# Altium footprint library PcbLib1.PcbLib: 18 footprints (part 2 of 2)
Each footprint in its own frame and in the unit in brackets; x right, y up, seen from the top. Pads: shape width x height; smd on the part's side, far side on the other; paste and mask are expansions set on the pad; w line width, h text height; cw(c..) or ccw(c..) is an arc to the next point about the centre after c.
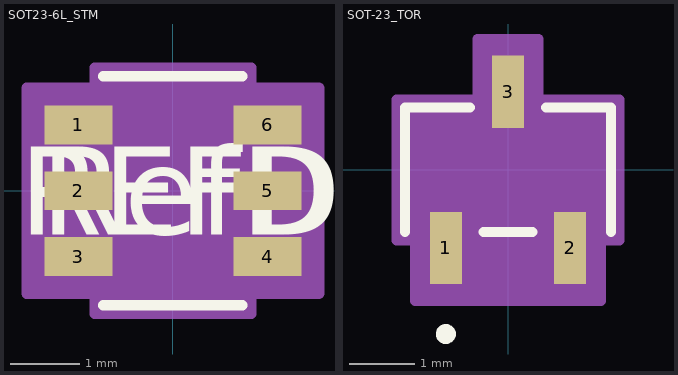
[diagram p1: the footprints below, top view; thin cyan lines are the x and y axes]

## SOT23-6L_STM [mil]
pads (6):
  rect 38.5x22 smd paste+0 mask+0: 1(-53.75,37.4) 2(-53.75,0) 3(-53.75,-37.4) 4(53.75,-37.4) 5(53.75,0) 6(53.75,37.4)
Top Overlay:
  lines w6: -39.5,-65 39.5,-65 ; -39.5,65 39.5,65
  text "REFDES" at -87.5,-25 h50
  text "RefDes" at -75,-25 h50
Top 3D Body:
  lines w0: -12,60 ccw(c0,60) 12,60
  lines w1: -59,-47.4 -59,-27.4 -34.5,-27.4 -34.5,-47.4 -59,-47.4 ; -59,-10 -59,10 -34.5,10 -34.5,-10 -59,-10 ; -59,27.4 -59,47.4 -34.5,47.4 -34.5,27.4 -59,27.4 ; -34.5,-60 34.5,-60 34.5,60 -34.5,60 -34.5,-60 ; 34.5,-47.4 34.5,-27.4 59,-27.4 59,-47.4 34.5,-47.4 ; 34.5,-10 34.5,10 59,10 59,-10 34.5,-10 ; 34.5,27.4 34.5,47.4 59,47.4 59,27.4 34.5,27.4
  text "*" at -32,7 h50
  text "RefDes2" at -87.5,-25 h50
Top Courtyard:
  region: -44.5,-58.4 -83,-58.4 -83,58.4 -44.5,58.4 -44.5,70 44.5,70 44.5,58.4 83,58.4 83,-58.4 44.5,-58.4 44.5,-70 -44.5,-70
  lines w6: -83,-58.4 -83,58.4 -44.5,58.4 -44.5,70 44.5,70 44.5,58.4 83,58.4 83,-58.4 44.5,-58.4 44.5,-70 -44.5,-70 -44.5,-58.4 -83,-58.4
3D body "SOT23-6L_STM.step": height 57.09, standoff 0, extent -59.02,-60 59.02,60

## SOT-23_TOR [mil]
pads (3):
  rect 19.36x43.56 smd paste+0 mask+0: 1(-37.4,-47) 2(37.4,-47) 3(0,47)
Top Overlay:
  circle w6: c-37.4,-98.78 r3
  lines w6: -62,-37.5 -62,37.5 -22.78,37.5 ; -14.62,-37.5 14.62,-37.5 ; 22.78,37.5 62,37.5 62,-37.5
  text ".Designator" at -137.5,-25 h50
Top 3D Body:
  circle w1: c-37.4,-22.5 r3
  lines w1: -57,-32.5 -57,32.5 57,32.5 57,-32.5 -57,-32.5 ; -45.9,-55 -28.9,-55 -28.9,-32.5 -45.9,-32.5 -45.9,-55 ; -8.5,32.5 -8.5,55 8.5,55 8.5,32.5 -8.5,32.5 ; 28.9,-55 45.9,-55 45.9,-32.5 28.9,-32.5 28.9,-55
  text ".Designator" at -137.5,-25 h50
Top Courtyard:
  region: -67,-42.5 -67,42.5 -18.5,42.5 -18.5,78.78 18.5,78.78 18.5,42.5 67,42.5 67,-42.5 55.9,-42.5 55.9,-78.78 -55.9,-78.78 -55.9,-42.5
  lines w6: -67,-42.5 -55.9,-42.5 -55.9,-78.78 55.9,-78.78 55.9,-42.5 67,-42.5 67,42.5 18.5,42.5 18.5,78.78 -18.5,78.78 -18.5,42.5 -67,42.5 -67,-42.5
3D body "SOT-23_TOR.step": height 51.1, standoff 0, extent -57.01,-55 57.01,55